# Altium schematic symbol library Opamp.SchLib: 2 symbols
Pins are listed as number, name and electrical type; pins without a type are passive.

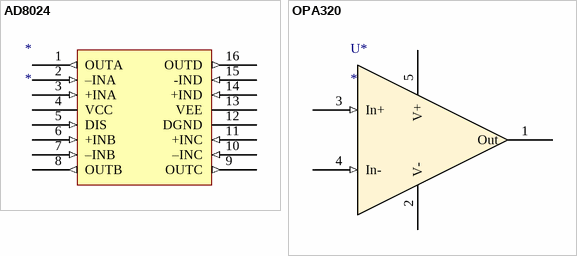
[diagram p0: symbols AD8024 to OPA320]

## AD8024
designator *
footprint SOIC127P600X265-16N (SOIC, 16-Leads, Body 9,90x3,90mm, Pitch 1,27mm, IPC Medium Density)
pins: 1 OUTA (out), 2 –INA (in), 3 +INA (in), 4 VCC (power), 5 DIS (in), 6 +INB (in), 7 –INB (in), 8 OUTB (out), 9 OUTC (out), 10 –INC (in), 11 +INC (in), 12 DGND (power), 13 VEE (power), 14 +IND (in), 15 -IND (in), 16 OUTD (out)

## OPA320
designator U*
footprint SOT95P245X110-5N (SOT23, 5-Leads, Body 2,90x2,45mm, Pitch 0,95mm, IPC Medium Density)
pins: 1 Out, 2 V- (power), 3 In+ (in), 4 In- (in), 5 V+ (power)